# Altium schematic symbol library XR33202EEHBTR-F.SchLib: 1 symbol
Pins are listed as number, name and electrical type; pins without a type are passive.

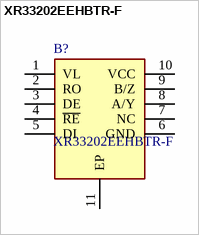
[diagram p0: symbol XR33202EEHBTR-F]

## XR33202EEHBTR-F
designator B?
RS-422/RS-485 Interface IC Wide Supply Trans with I/O Interface; Manufacturer_Name: MaxLinear, Inc.; Geometry.Height: 0.8mm; Mouser Part Number: 701-XR33202EEHBTR-F; Mouser Price/Stock: https://www.mouser.co.uk/ProductDetail/MaxLinear/XR33202EEHBTR-F?qs=GtWAI9k6EVi4nRW8bj1LFw%3D%3D; Manufacturer_Part_Number: XR33202EEHBTR-F; Datasheet Link: https://www.maxlinear.com/ds/xr33202.pdf
footprint SON50P300X300X80-11N-D
pins: 1 VL, 2 RO, 3 DE, 4 ~{RE}, 5 DI, 6 GND, 7 NC, 8 A/Y, 9 B/Z, 10 VCC, 11 EP